# Altium footprint library PCB - CONNECTOR - USB - AMPHENOL GSB416445CHR.PCBLIB: 1 footprints
Each footprint in its own frame and in the unit in brackets; x right, y up, seen from the top. Pads: shape width x height; smd on the part's side, far side on the other; paste and mask are expansions set on the pad; w line width, h text height; cw(c..) or ccw(c..) is an arc to the next point about the centre after c.
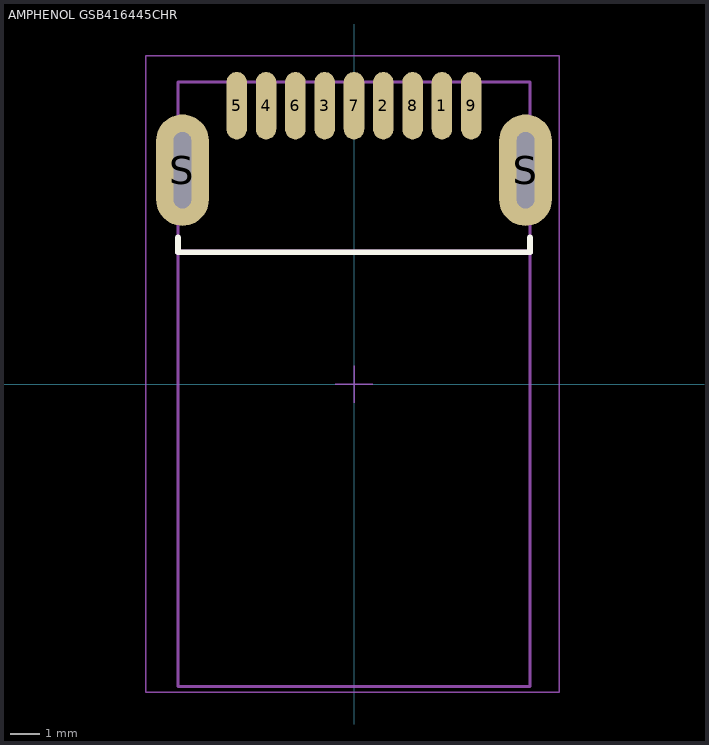
[diagram p0: the footprint, top view; thin cyan lines are the x and y axes]

## AMPHENOL GSB416445CHR [mm] "USB 3.0 Type A"
height 4
pads (11):
  oval 0.7x2.3 smd: 1(3,9.5) 2(1,9.5) 3(-1,9.5) 4(-3,9.5) 5(-4,9.5) 6(-2,9.5) 7(0,9.5) 8(2,9.5) 9(4,9.5)
  oval 1.8x3.8 hole 2.6 slot 0.6 at 0 deg: S(-5.85,7.3) S(5.85,7.3)
Top Overlay:
  lines w0.2: -6,5 -6,4.5 6,4.5 6,5
Mechanical 13:
  lines w0.1: -6,-10.3 -6,10.3 6,10.3 6,-10.3 -6,-10.3
  lines w0.2: -6,4.5 6,4.5
Mechanical 15:
  lines w0.05: -0.635,0 0.635,0 ; 0,-0.635 0,0.635 ; -7.1,-10.5 7,-10.5 7,11.2 -7.1,11.2 -7.1,-10.5
3D body "Amphenol - GSB416445CHR.step": height 1.88, standoff -2.63, extent -6,-10.325 6,10.325